# EAGLE library part DG469 (library PP_AnalogIC)
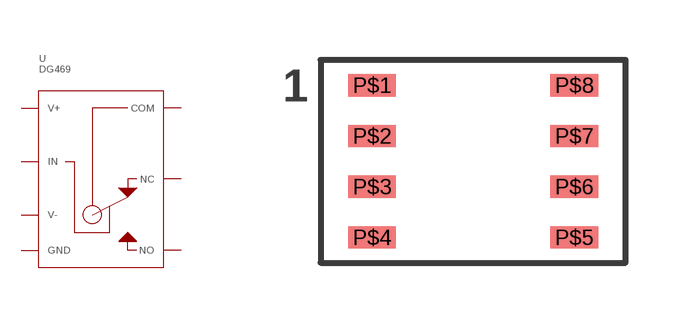
[diagram p14: symbol with the pads of DG469_SOIC-8; footprint DG469_SOIC-8]

Designator prefix U

## DG469EY-T1-E3  [DG469_SOIC-8]
P$1  COM
P$2  NC
P$3  GND
P$4  V+
P$6  IN
P$7  V-
P$8  NO

## Footprint DG469_SOIC-8 (pad centres in mm)
smd 1.194 x 0.559: P$1 -2.527,1.905; P$2 -2.527,0.635; P$3 -2.527,-0.635; P$4 -2.527,-1.905; P$5 2.527,-1.905; P$6 2.527,-0.635; P$7 2.527,0.635; P$8 2.527,1.905